# Altium footprint library Mechanical Components.PcbLib: 50 footprints (part 4 of 4)
Each footprint in its own frame and in the unit in brackets; x right, y up, seen from the top. Pads: shape width x height; smd on the part's side, far side on the other; paste and mask are expansions set on the pad; w line width, h text height; cw(c..) or ccw(c..) is an arc to the next point about the centre after c.
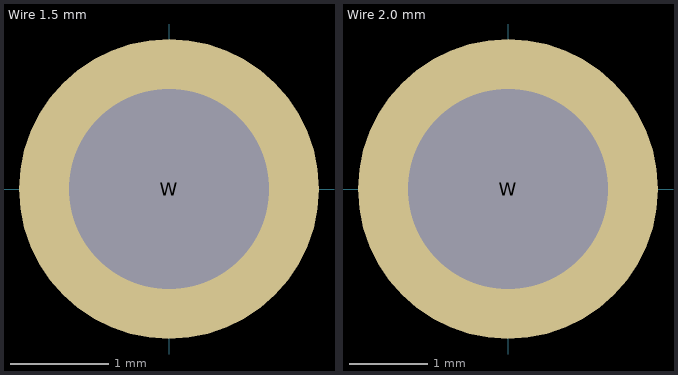
[diagram p3: the footprints below, top view; thin cyan lines are the x and y axes]

## Wire 1.5 mm [mil]
pads (1):
  round 120 hole 80: W(0,0)
3D body: height 118.11, standoff -78.74, extent -29.29,-29.47 29.53,29.47
3D body: height 204.72, standoff 7.87, extent -42.96,-43.22 43.31,43.23

## Wire 2.0 mm [mil]
pads (1):
  round 150 hole 100: W(0,0)
3D body: height 118.11, standoff -78.74, extent -39.06,-39.29 39.37,39.29
3D body: height 204.72, standoff 7.87, extent -58.59,-58.93 59.06,58.94